# EAGLE library part EUROPWR_2X05 (library tsyklon-labs)
2x05 pin header
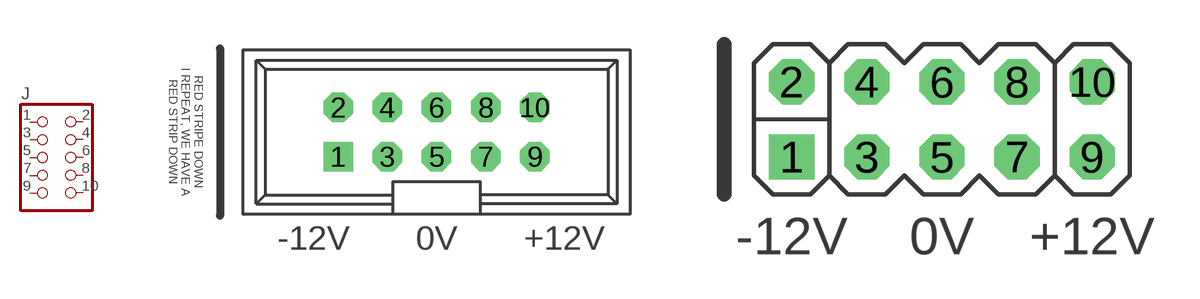
[diagram p0: symbol with the pads of 2X05_EUROPWR_SHROUD; footprints 2X05_EUROPWR_SHROUD, 2X05_EUROPWR_OPEN]

Designator prefix J

## EUROPWR_2X05-SHROUDED  [2X05_EUROPWR_SHROUD]
1  1  pas
2  2  pas
3  3  pas
4  4  pas
5  5  pas
6  6  pas
7  7  pas
8  8  pas
9  9  pas
10  10  pas

## EUROPWR_2X05-OPEN  [2X05_EUROPWR_OPEN]
Pads as for 2X05_EUROPWR_SHROUD

## Footprint 2X05_EUROPWR_SHROUD (pad centres in mm)
2x05 Shrouded Pin Header
drill 1.016 square: 1 -5.08,-1.27
drill 1.016 octagon: 2 -5.08,1.27; 3 -2.54,-1.27; 4 -2.54,1.27; 5 0,-1.27; 6 0,1.27; 7 2.54,-1.27; 8 2.54,1.27; 9 5.08,-1.27; 10 5.08,1.27

## Footprint 2X05_EUROPWR_OPEN (pad centres in mm)
PIN HEADER
drill 1.016 square: 1 -5.08,-1.27
drill 1.016 octagon: 2 -5.08,1.27; 3 -2.54,-1.27; 4 -2.54,1.27; 5 0,-1.27; 6 0,1.27; 7 2.54,-1.27; 8 2.54,1.27; 9 5.08,-1.27; 10 5.08,1.27